# EAGLE library part MCP2515 (library we-chip)
Microchip MCP2515 CAN Controller
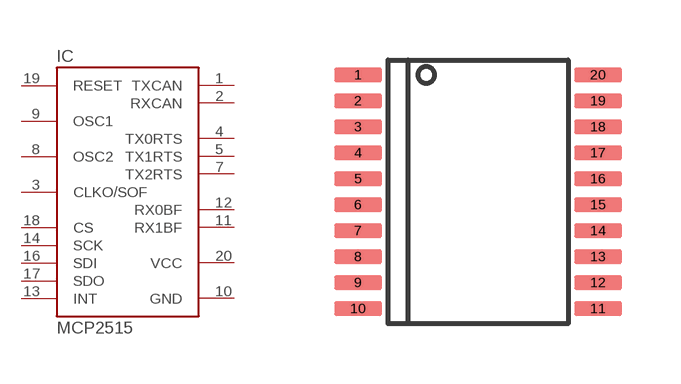
[diagram p48: symbol with the pads of TSSOP20; footprint TSSOP20]

Designator prefix IC

## MCP2515T-I/ST  [TSSOP20]
1  TXCAN
2  RXCAN
3  CLKO/SOF
4  TX0RTS
5  TX1RTS
7  TX2RTS
8  OSC2
9  OSC1
10  GND  pwr
11  RX1BF
12  RX0BF
13  INT
14  SCK
16  SDI
17  SDO
18  CS
19  RESET
20  VCC  pwr

## Footprint TSSOP20 (pad centres in mm)
smd 1.2 x 0.35: 1 -3,2.925; 2 -3,2.275; 3 -3,1.625; 4 -3,0.975; 5 -3,0.325; 6 -3,-0.325; 7 -3,-0.975; 8 -3,-1.625; 9 -3,-2.275; 10 -3,-2.925; 11 3,-2.925; 12 3,-2.275; 13 3,-1.625; 14 3,-0.975; 15 3,-0.325; 16 3,0.325; 17 3,0.975; 18 3,1.625; 19 3,2.275; 20 3,2.925